# Altium schematic symbol library ArdUno_KAEsm5-61-2.SchLib: 68 symbols
Pins are listed as number, name and electrical type; pins without a type are passive.

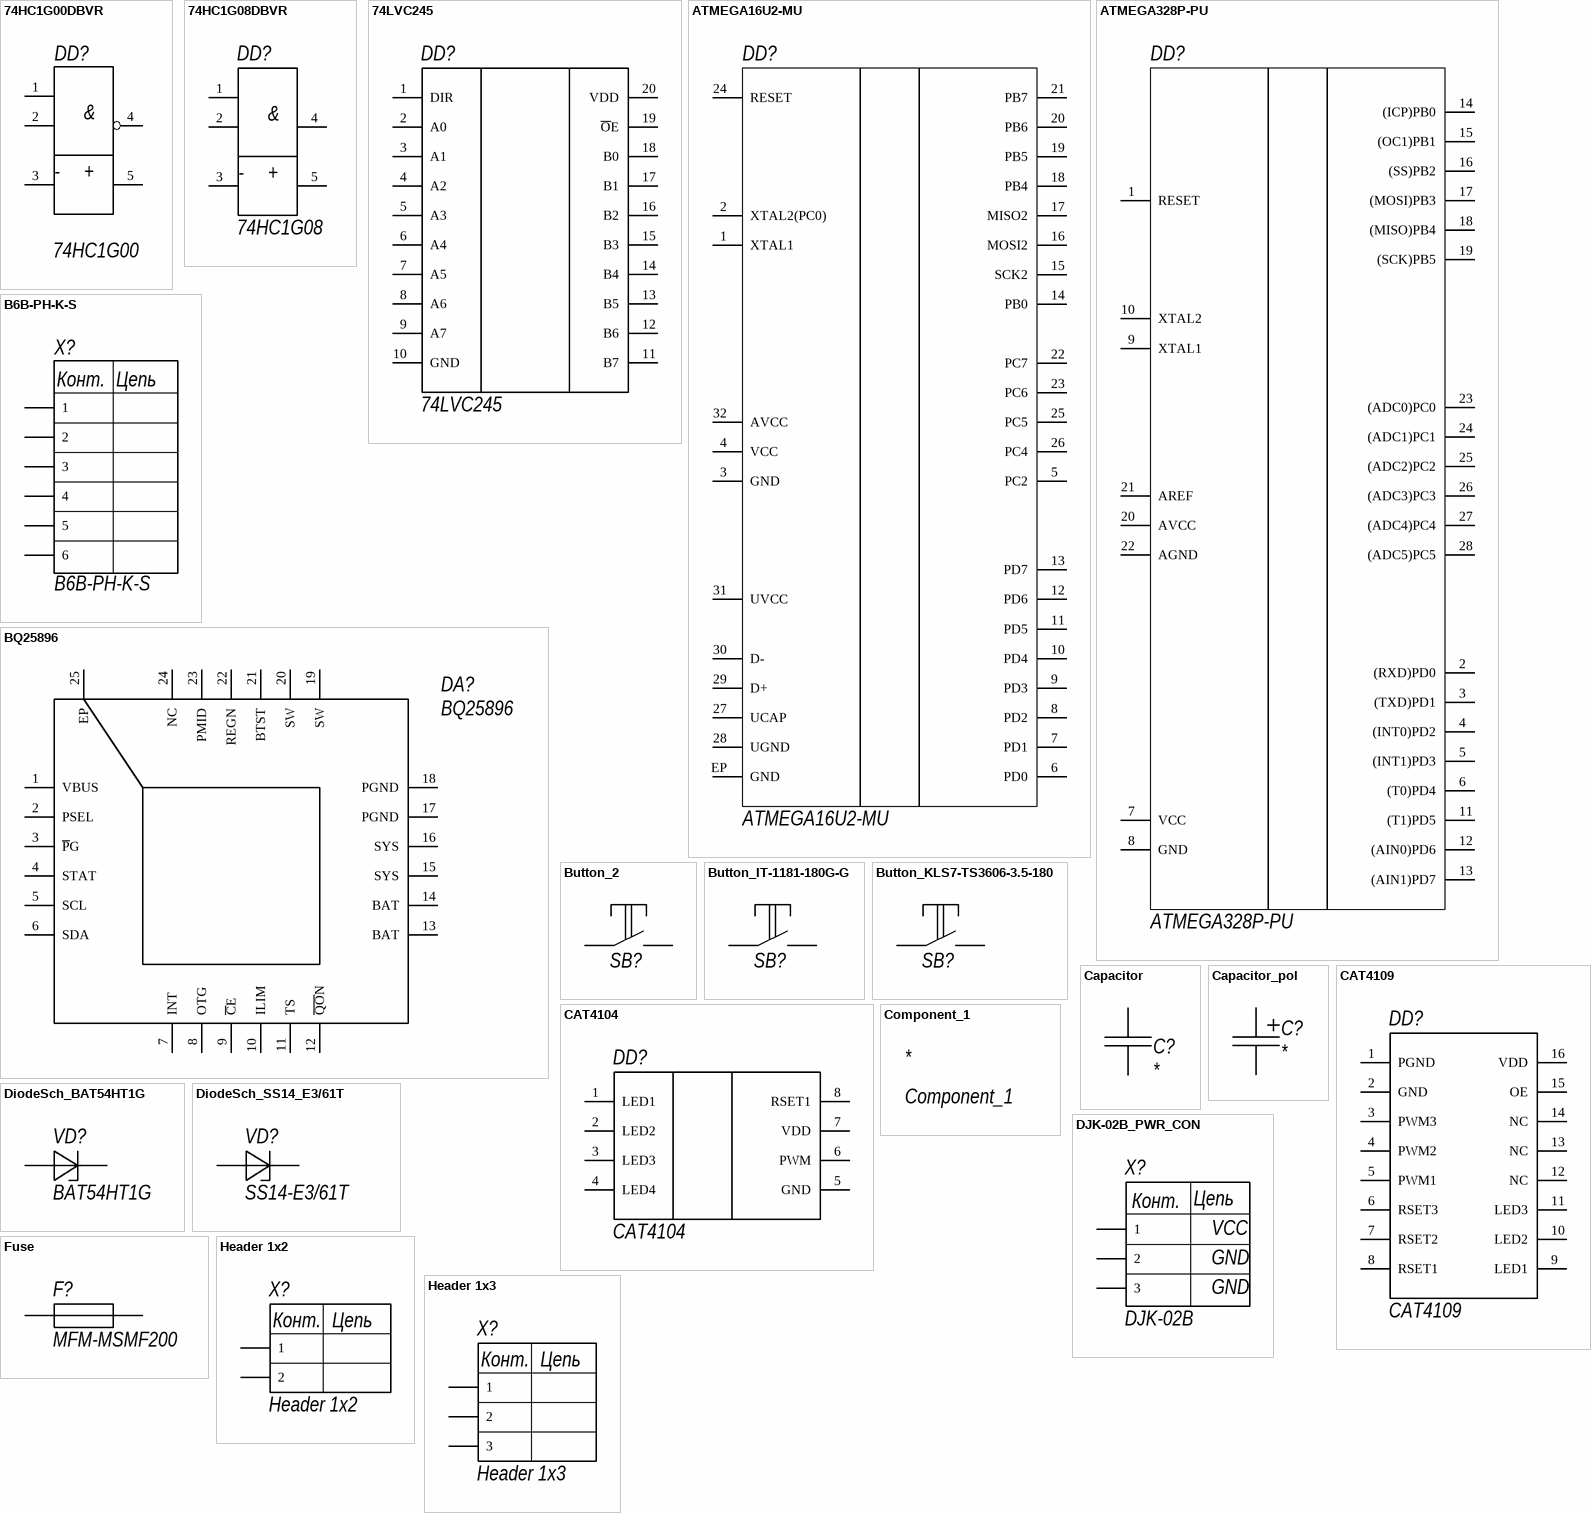
[diagram p0: symbols 74HC1G00DBVR to Header 1x3]

## 74HC1G00DBVR
designator DD?, comment 74HC1G00
footprint SOT23-5
pins: 1, 2, 3, 4, 5
text: &; -; +

## 74HC1G08DBVR
designator DD?, comment 74HC1G08
footprint SOT23-5
pins: 1, 2, 3, 4, 5
text: &; -; +

## 74LVC245
designator DD?
pins: 1 DIR, 2 A0, 3 A1, 4 A2, 5 A3, 6 A4, 7 A5, 8 A6, 9 A7, 10 GND, 11 B7, 12 B6, 13 B5, 14 B4, 15 B3, 16 B2, 17 B1, 18 B0, 19 ~{O}E, 20 VDD

## ATMEGA16U2-MU
designator DD?
ValueManufacturer: ATMEGA; ValueType: Микроконтроллер; ValueManufacturerPartNumber: ATMEGA16U2-MU; ValueDescription: Микроконтроллер; Case: QFN32_0.5_0.5_5x5мм
footprint QFN32_0.5_5x5mm
pins: 1 XTAL1, 2 XTAL2(PC0), 3 GND, 4 VCC, 5 PC2, 6 PD0, 7 PD1, 8 PD2, 9 PD3, 10 PD4, 11 PD5, 12 PD6, 13 PD7, 14 PB0, 15 SCK2, 16 MOSI2, 17 MISO2, 18 PB4, 19 PB5, 20 PB6, 21 PB7, 22 PC7, 23 PC6, 24 RESET, 25 PC5, 26 PC4, 27 UCAP, 28 UGND, 29 D+, 30 D-, 31 UVCC, 32 AVCC, EP GND

## ATMEGA328P-PU
designator DD?
ValueManufacturer: ATMEGA; ValueType: Микроконтроллер; ValueManufacturerPartNumber: ATMEGA328P-PU; ValueDescription: Микроконтроллер; Case: DIP-28
footprint DIP28_2.54
pins: 1 RESET, 2 (RXD)PD0, 3 (TXD)PD1, 4 (INT0)PD2, 5 (INT1)PD3, 6 (T0)PD4, 7 VCC, 8 GND, 9 XTAL1, 10 XTAL2, 11 (T1)PD5, 12 (AIN0)PD6, 13 (AIN1)PD7, 14 (ICP)PB0, 15 (OC1)PB1, 16 (SS)PB2, 17 (MOSI)PB3, 18 (MISO)PB4, 19 (SCK)PB5, 20 AVCC, 21 AREF, 22 AGND, 23 (ADC0)PC0, 24 (ADC1)PC1, 25 (ADC2)PC2, 26 (ADC3)PC3, 27 (ADC4)PC4, 28 (ADC5)PC5

## B6B-PH-K-S
designator X?
footprint B6B-PH-K-S
pins: 1, 2, 3, 4, 5, 6
text: Конт.; Цепь

## BQ25896
designator DA?
footprint PQFN127P600-8N
pins: 1 VBUS, 2 PSEL, 3 ~{P}G, 4 STAT, 5 SCL, 6 SDA, 7 INT, 8 OTG, 9 ~{C}E, 10 ILIM, 11 TS, 12 ~{QO}N, 13 BAT, 14 BAT, 15 SYS, 16 SYS, 17 PGND, 18 PGND, 19 SW, 20 SW, 21 BTST, 22 REGN, 23 PMID, 24 NC, 25 EP

## Button_2
designator SB?, comment 2-1437565-7  (value not drawn)
ValueManufacturer: Te Connectivity; ValueType: Кнопка тактовая; ValueManufacturerPartNumber: 2-1437565-7
footprint TAFG1-13WQR
footprint IT-1181-180G-G
footprint KLS7-TS3606-3.5-180
pins: 1, 2

## Button_IT-1181-180G-G
designator SB?, comment IT-1181-180G-G  (value not drawn)
ValueManufacturer: Te Connectivity; ValueType: Кнопка тактовая; ValueManufacturerPartNumber: IT-1181-180G-G
footprint IT-1181-180G-G
pins: 1, 2

## Button_KLS7-TS3606-3.5-180
designator SB?, comment KLS7-TS3606-3.5-180  (value not drawn)
ValueManufacturer: Te Connectivity; ValueType: Кнопка тактовая; ValueManufacturerPartNumber: KLS7-TS3606-3.5-180
footprint KLS7-TS3606-3.5-180
pins: 1, 2

## Capacitor
designator C?
ValueType: Конденсатор; Value: *; Tolerance: *; Dielectric: *; Voltage: *; ESR: *; URL: *; Temp: *; Power: *; Case: *; ValueManufacturer: *; ValueManufacturerPartNumber: *; ValueDescription: *
footprint 0603_CAP
pins: 1, 2

## Capacitor_pol
designator C?
ValueType: Конденсатор; Value: *; Tolerance: *; Dielectric: *; Voltage: *; ESR: *; URL: *; Temp: *; Power: *; Case: *; ValueManufacturer: *; ValueManufacturerPartNumber: *; ValueDescription: *
footprint Capacitor_pol
pins: 1, 2

## CAT4104
designator DD?
pins: 1 LED1, 2 LED2, 3 LED3, 4 LED4, 5 GND (power), 6 PWM, 7 VDD (power), 8 RSET1

## CAT4109
designator DD?
footprint SOIC127P600X175-16N (SOIC, 16-Leads, Body 9,90x3,90mm, Pitch 1,27mm, IPC Medium Density)
pins: 1 PGND (power), 2 GND (power), 3 PWM3, 4 PWM2, 5 PWM1, 6 RSET3, 7 RSET2, 8 RSET1, 9 LED1, 10 LED2, 11 LED3, 12 NC, 13 NC, 14 NC, 15 OE, 16 VDD (power)

## Component_1
designator *

## DiodeSch_BAT54HT1G
designator VD?, comment BAT54HT1G
ValueManufacturer: On Semiconductor; Temp: -55..+150; ValueType: Диод Шоттки; Value: *; URL: *; Case: SOD-323; ValueManufacturerPartNumber: BAT54HT1G; ValueDescription: Диод Шоттки
footprint SOD_323
pins: A 1, K 2

## DiodeSch_SS14_E3/61T
designator VD?, comment SS14-E3/61T
ValueManufacturer: Vishay; ValueType: Диод Шоттки; Value: *; URL: *; Temp: *; Case: *; ValueManufacturerPartNumber: SS14-E3/61T; ValueDescription: Диод Шоттки
footprint DO-214AC
pins: A 1, K 2

## DJK-02B_PWR_CON
designator X?, comment DJK-02B
ValueManufacturer: KLS; ValueType: Разъем питания; Case: *; Temp: *; URL: *; Value: *; ValueDescription: DJK-02B; ValueManufacturerPartNumber: DJK-02B
footprint DJK-02B
pins: 1, 2, 3
text: Конт.; Цепь; VCC; GND

## Fuse
designator F?, comment MFM-MSMF200
ValueType: Предохранитель; Value: *; URL: *; Temp: *; Case: *; ValueManufacturer: *; ValueManufacturerPartNumber: MFM-MSMF200; ValueDescription: *
footprint MF-MSMF200
pins: 1, 2

## Header 1x2
designator X?
ValueDescription: PLD-6; ValueType: Разъем штыревой 2,54 мм; Case: HDR2X3; Temp: *; URL: *; Value: *; ValueManufacturer: *; ValueManufacturerPartNumber: *
pins: 1, 2
text: Конт.; Цепь

## Header 1x3
designator X?
ValueDescription: PLD-3; ValueType: Разъем штыревой 2,54 мм; Case: HDR1X3; Temp: *; URL: *; Value: *; ValueManufacturer: *; ValueManufacturerPartNumber: *
footprint HDR2X3
pins: 1, 2, 3
text: Конт.; Цепь

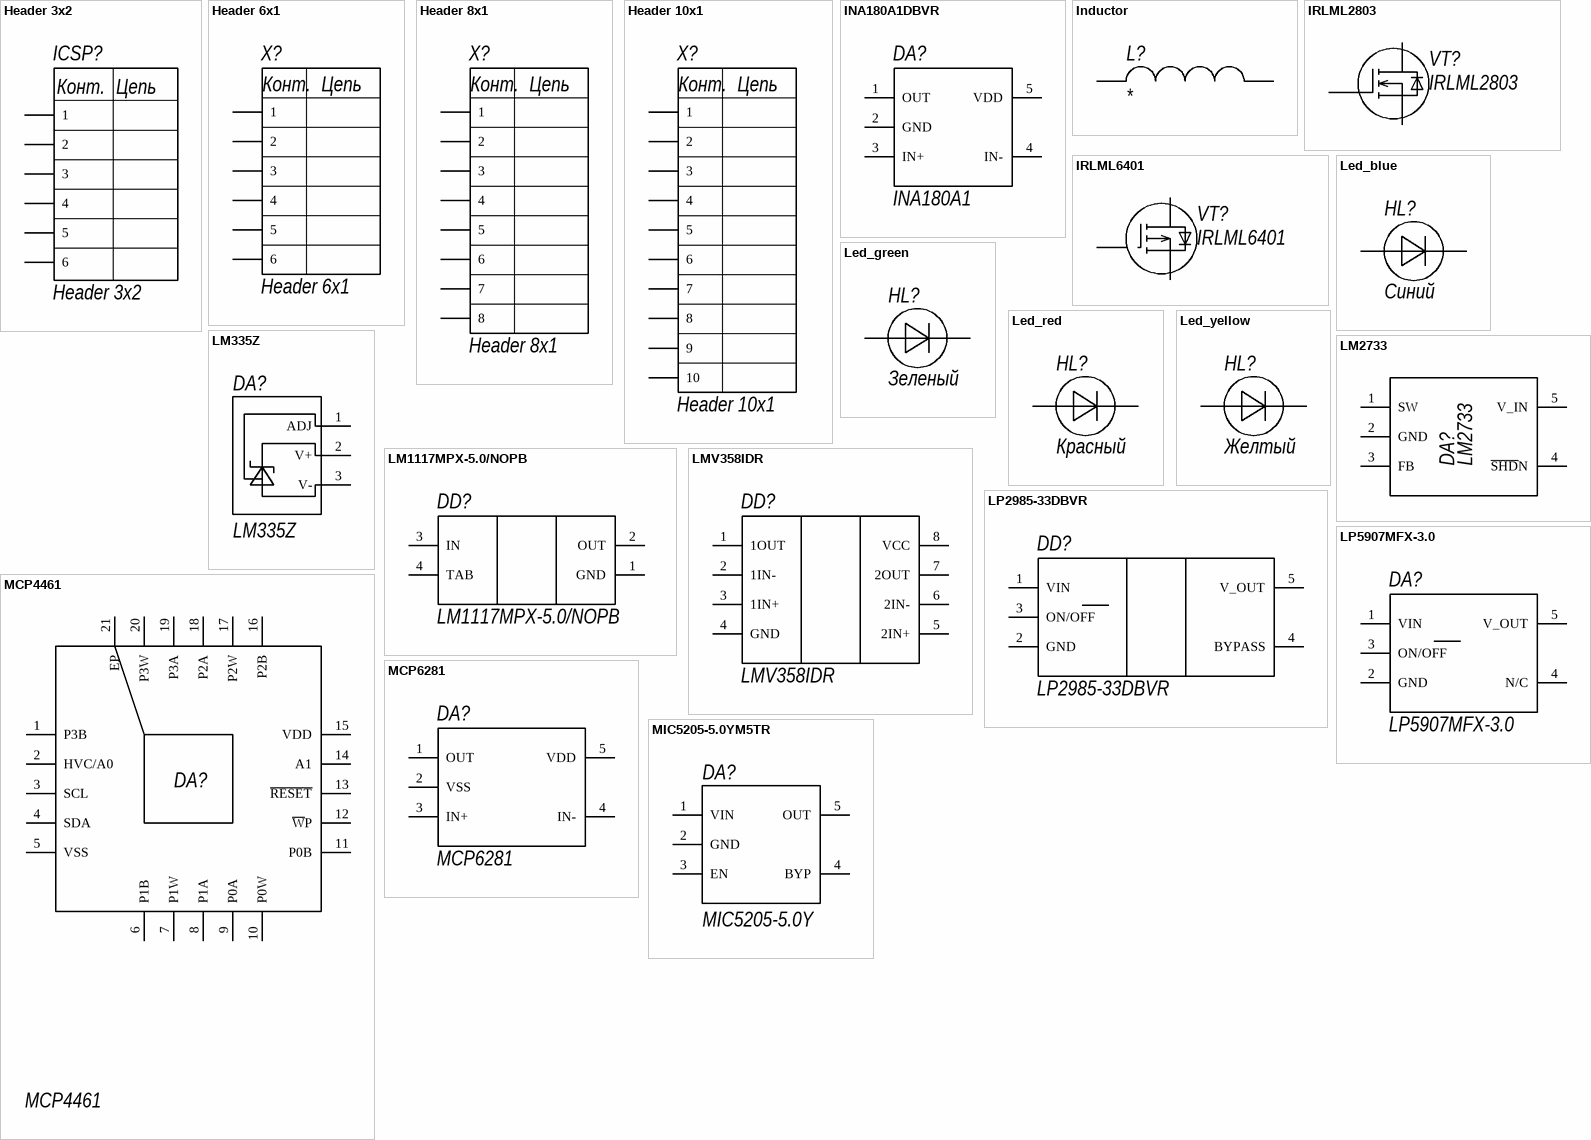
[diagram p1: symbols Header 3x2 to MIC5205-5.0YM5TR]

## Header 3x2
designator ICSP?
ValueDescription: PLD-6; ValueType: Разъем штыревой 2,54 мм; Case: HDR2X3; Temp: *; URL: *; Value: *; ValueManufacturer: *; ValueManufacturerPartNumber: *
footprint HDR2X3
pins: 1, 2, 3, 4, 5, 6
text: Конт.; Цепь

## Header 6x1
designator X?
ValueType: Разъем; Case: PBS-6; Temp: *; URL: *; ValueManufacturer: *; ValueManufacturerPartNumber: *
footprint PBS-06
pins: 1, 2, 3, 4, 5, 6
text: Конт.; Цепь

## Header 8x1
designator X?
ValueType: Разъем; Case: PBS-8; Temp: *; URL: *; ValueManufacturer: *; ValueManufacturerPartNumber: *
footprint PBS-08
pins: 1, 2, 3, 4, 5, 6, 7, 8
text: Конт.; Цепь

## Header 10x1
designator X?
ValueType: Разъем; Case: PBS-10; Temp: *; URL: *; ValueManufacturer: *; ValueManufacturerPartNumber: *
footprint PBS-10
pins: 1, 2, 3, 4, 5, 6, 7, 8, 9, 10
text: Конт.; Цепь

## INA180A1DBVR
designator DA?, comment INA180A1
footprint SOT23-5
pins: 1 OUT, 2 GND, 3 IN+, 4 IN-, 5 VDD

## Inductor
designator L?
ValueManufacturerPartNumber: BLM18AG601SN1D; ValueType: Индуктивность; Value: *; Tolerance: *; ESR: *; URL: *; Temp: *; Case: *; ValueManufacturer: *; ValueDescription: *
footprint 0603_IND
footprint INDP7166X30N (Precision Wire Wound Inductor, 2-Leads, Body 7,10x6,60mm, IPC Medium Density)
footprint IND_1515(4*4) (Precision Wire Wound Inductor, 2-Leads, Body 4,00x4,00mm, IPC Medium Density)
footprint sh3018
pins: 1, 2

## IRLML2803
designator VT?
footprint SOT-23
pins: 1 G, 2 S, 3 D

## IRLML6401
designator VT?
footprint SOT-23
pins: 1 G, 2 S, 3 D

## Led_blue
designator HL?, comment Синий
ValueManufacturer: Foryard; ValueManufacturerPartNumber: fyls-0603urc; Temp: -40...+85°C; ValueType: Светодиод; URL: *; Case: 0603; Value: Синий; ValueDescription: Светодиод
footprint 0603_LED_BLUE
pins: A, K

## Led_green
designator HL?, comment Зеленый
ValueManufacturer: Foryard; ValueManufacturerPartNumber: fyls-0603urc; Temp: -40...+85°C; ValueType: Светодиод; URL: *; Case: 0603; Value: Зеленый; ValueDescription: Светодиод
footprint 0603_LED_GREEN
pins: A, K

## Led_red
designator HL?, comment Красный
ValueManufacturer: Foryard; ValueManufacturerPartNumber: fyls-0603urc; Temp: -40...+85°C; ValueType: Светодиод; URL: *; Case: 0603; Value: Красный; ValueDescription: Светодиод
footprint 0603_LED_RED
pins: A, K

## Led_yellow
designator HL?, comment Желтый
ValueManufacturer: Foryard; ValueManufacturerPartNumber: fyls-0603urc; Temp: -40...+85°C; ValueType: Светодиод; URL: *; Case: 0603; Value: Желтый; ValueDescription: Светодиод
footprint 0603_LED_YELLOW
pins: A, K

## LM335Z
designator DA?
pins: 1 ADJ, 2 V+, 3 V-

## LM1117MPX-5.0/NOPB
designator DD?
ValueManufacturer: Texas Instruments; ValueType: Линейный стабилизатор напряжения; Case: SOT-223; ValueManufacturerPartNumber: LM1117MPX-5.0
footprint SOT223-4
pins: 1 GND, 2 OUT, 3 IN, 4 TAB

## LM2733
designator DA?
footprint SOT23-5
pins: 1 SW, 2 GND, 3 FB, 4 ~{SHD}N, 5 V_IN

## LMV358IDR
designator DD?
ValueManufacturer: Texas Instruments; ValueType: Операционный усилитель; Case: SOIC-8; ValueManufacturerPartNumber: LMV358IDR
footprint SOIC-8
pins: 1 1OUT, 2 1IN-, 3 1IN+, 4 GND, 5 2IN+, 6 2IN-, 7 2OUT, 8 VCC
1 alternate drawing of the same symbol

## LP2985-33DBVR
designator DD?
ValueManufacturer: Texas Instruments; ValueType: Линейный стабилизатор напряжения; Case: SOT-23-5; ValueManufacturerPartNumber: LP2985-33DBVR
footprint SOT23-5
pins: 1 VIN, 2 GND, 3 ON/OFF, 4 BYPASS, 5 V_OUT

## LP5907MFX-3.0
designator DA?
footprint SOT23-5
pins: 1 VIN, 2 GND, 3 ON/OFF, 4 N/C, 5 V_OUT

## MCP4461
designator DA?
footprint PQFN50P400X400X100_HS-21N (PQFN, 20-Leads, Body 4,00x4,00mm, Pitch 0,50mm, Thermal Pad 2,70x2,70mm, IPC Medium Density)
pins: 1 P3B, 2 HVC/A0, 3 SCL, 4 SDA, 5 VSS (power), 6 P1B, 7 P1W, 8 P1A, 9 P0A, 10 P0W, 11 P0B, 12 ~{W}P, 13 ~{RESET}, 14 A1, 15 VDD (power), 16 P2B, 17 P2W, 18 P2A, 19 P3A, 20 P3W, 21 EP

## MCP6281
designator DA?
footprint SOT23-5
pins: 1 OUT, 2 VSS, 3 IN+, 4 IN-, 5 VDD

## MIC5205-5.0YM5TR
designator DA?, comment MIC5205-5.0Y
footprint SOT23-5
pins: 1 VIN, 2 GND, 3 EN, 4 BYP, 5 OUT

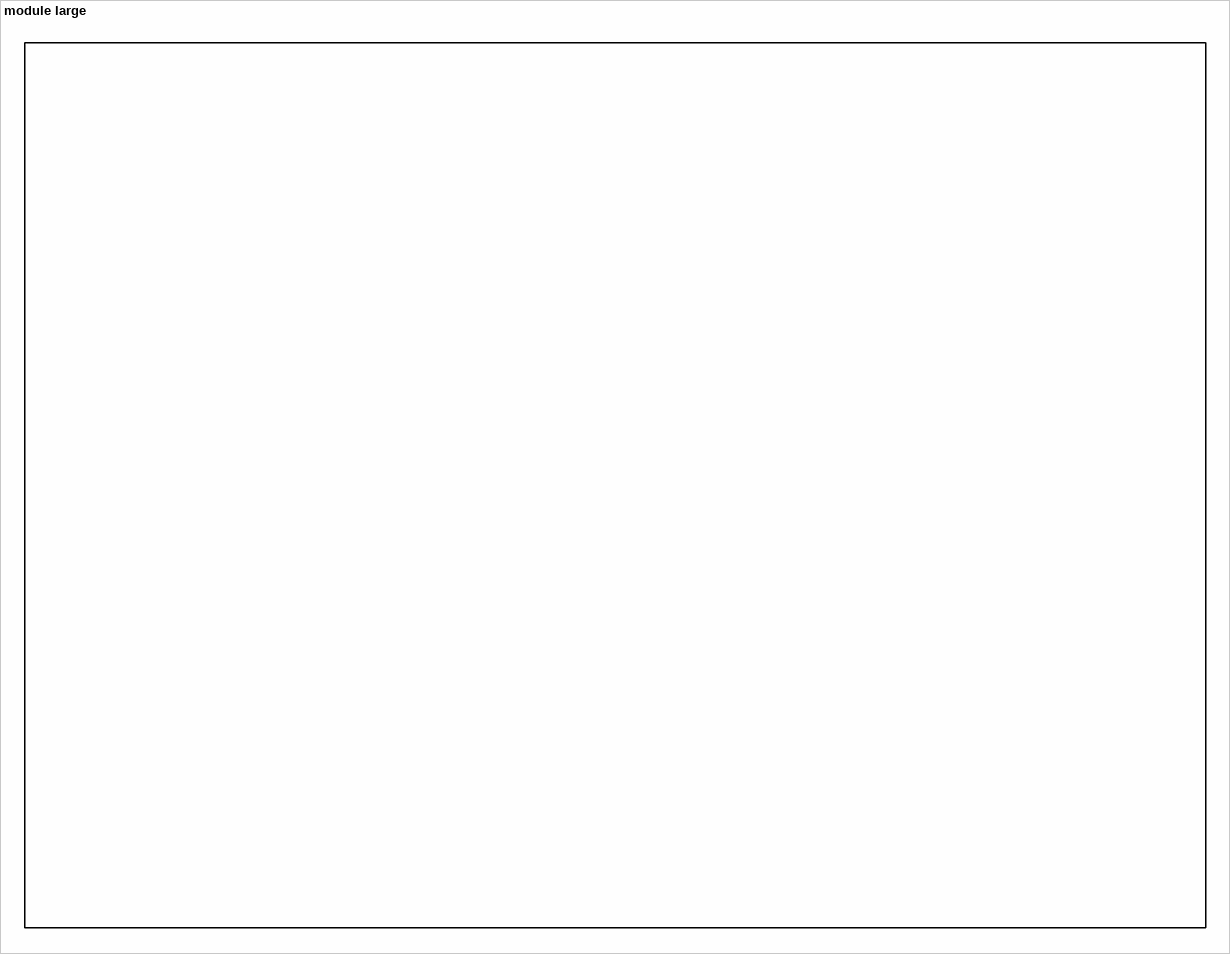
[diagram p2: symbol module large]

## module large
designator *  (value not drawn)

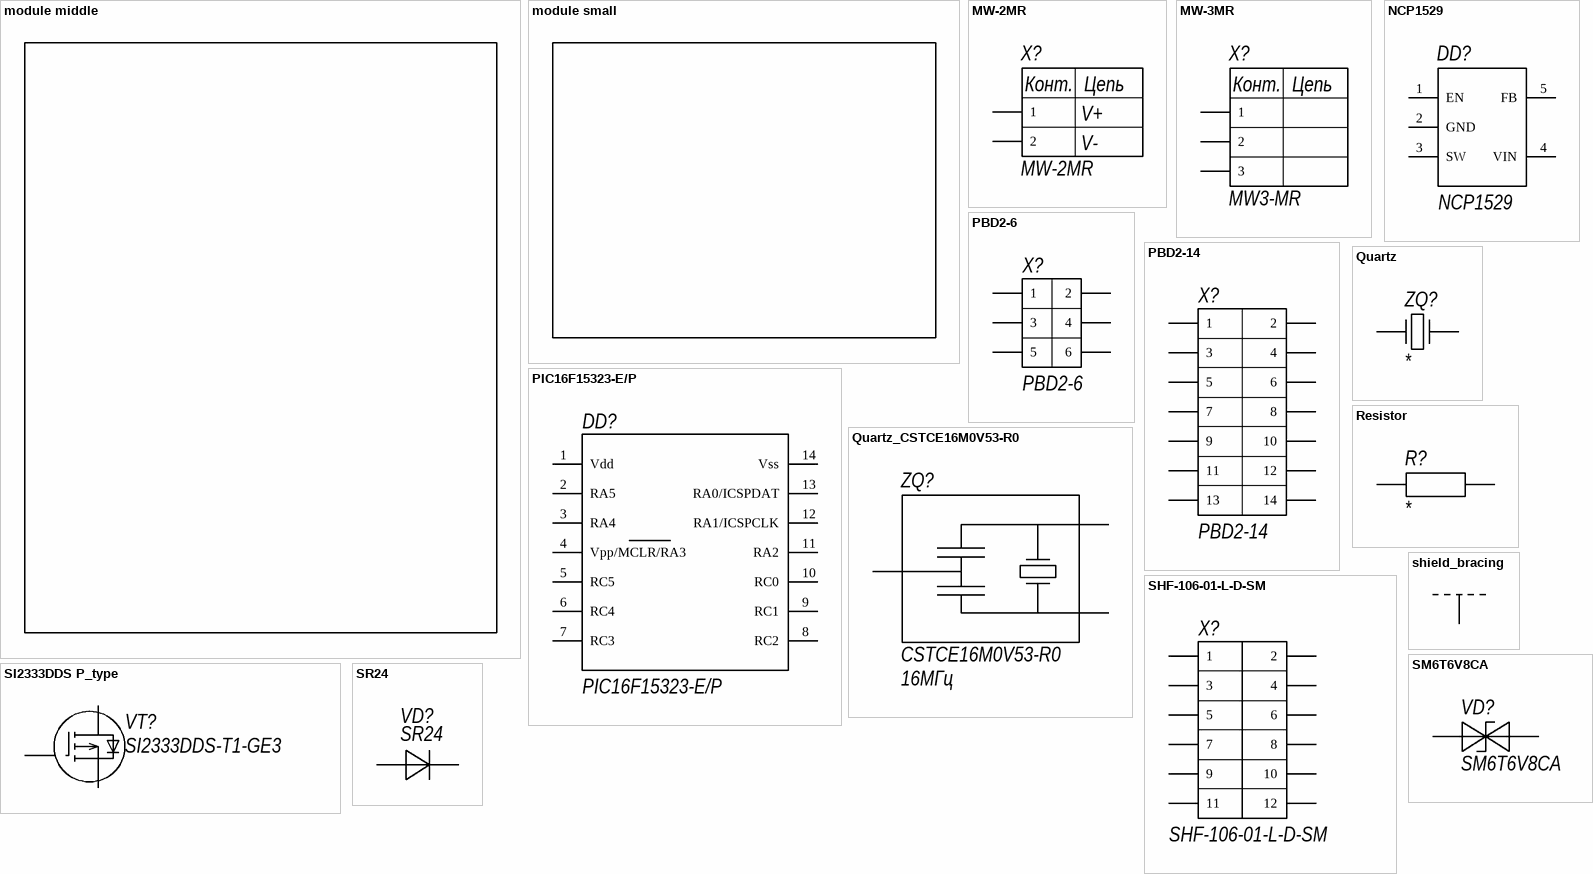
[diagram p3: symbols module middle to SR24]

## module middle
designator *  (value not drawn)

## module small
designator *  (value not drawn)

## MW-2MR
designator X?
footprint MW-2MR
pins: 1, 2
text: Конт.; Цепь; V+; V-

## MW-3MR
designator X?, comment MW3-MR
footprint MW-3MR
pins: 1, 2, 3
text: Конт.; Цепь

## NCP1529
designator DD?
footprint SOT23-5
pins: 1 EN, 2 GND (power), 3 SW, 4 VIN, 5 FB

## PBD2-6
designator X?
footprint PBD2-6
pins: 1, 2, 3, 4, 5, 6

## PBD2-14
designator X?
footprint PBD2-14
pins: 1, 2, 3, 4, 5, 6, 7, 8, 9, 10, 11, 12, 13, 14

## PIC16F15323-E/P
designator DD?
pins: 1 Vdd, 2 RA5, 3 RA4, 4 Vpp/MCLR/RA3, 5 RC5, 6 RC4, 7 RC3, 8 RC2, 9 RC1, 10 RC0, 11 RA2, 12 RA1/ICSPCLK, 13 RA0/ICSPDAT, 14 Vss

## Quartz
designator ZQ?
ValueType: Кварцевый резонатор; Tolerance: *; URL: *; Temp: *; Case: *; ValueManufacturer: *; ValueManufacturerPartNumber: *; Value: *
footprint HC-49S
footprint MJ-25.000 (0532)
pins: 1, 2

## Quartz_CSTCE16M0V53-R0
designator ZQ?, comment CSTCE16M0V53-R0  value 16МГц
ValueManufacturer: Murata; TEMP: -40...+85°C; Tolerance: 0.5%; ValueType: Керамический резонатор; Case: HC-49S; URL: *; ValueDescription: *; ValueManufacturerPartNumber: CSTCE16M0V53-R0
footprint CSTCE16M0V53-R0
pins: 1, 2, 3

## Resistor
designator R?
ValueType: Резистор; Value: *; Tolerance: *; URL: *; Temp: *; Power: *; Case: *; ValueManufacturer: *; ValueManufacturerPartNumber: *; ValueDescription: *
footprint 0603_RES
pins: 1, 2

## SHF-106-01-L-D-SM
designator X?
footprint SHF-106-01-L-D-SM
pins: 1, 2, 3, 4, 5, 6, 7, 8, 9, 10, 11, 12

## shield_bracing
designator sh?, comment shield  (value not drawn)
footprint shield_bracing
pins: 1

## SI2333DDS P_type
designator VT?, comment SI2333DDS-T1-GE3
ValueManufacturer: Vishay; ValueType: MOSFET; Case: SOT-23; ValueManufacturerPartNumber: SI2333DDS-T1-GE3
footprint SOT-23
pins: 1 G, 2 S, 3 D

## SM6T6V8CA
designator VD?
footprint DIOM4336X24N (Molded Diode, 2-Leads, Body 4,32x3,63mm, IPC Medium Density)
pins: A 1, K 2

## SR24
designator VD?
footprint DO-214AC
pins: A 1, K 2

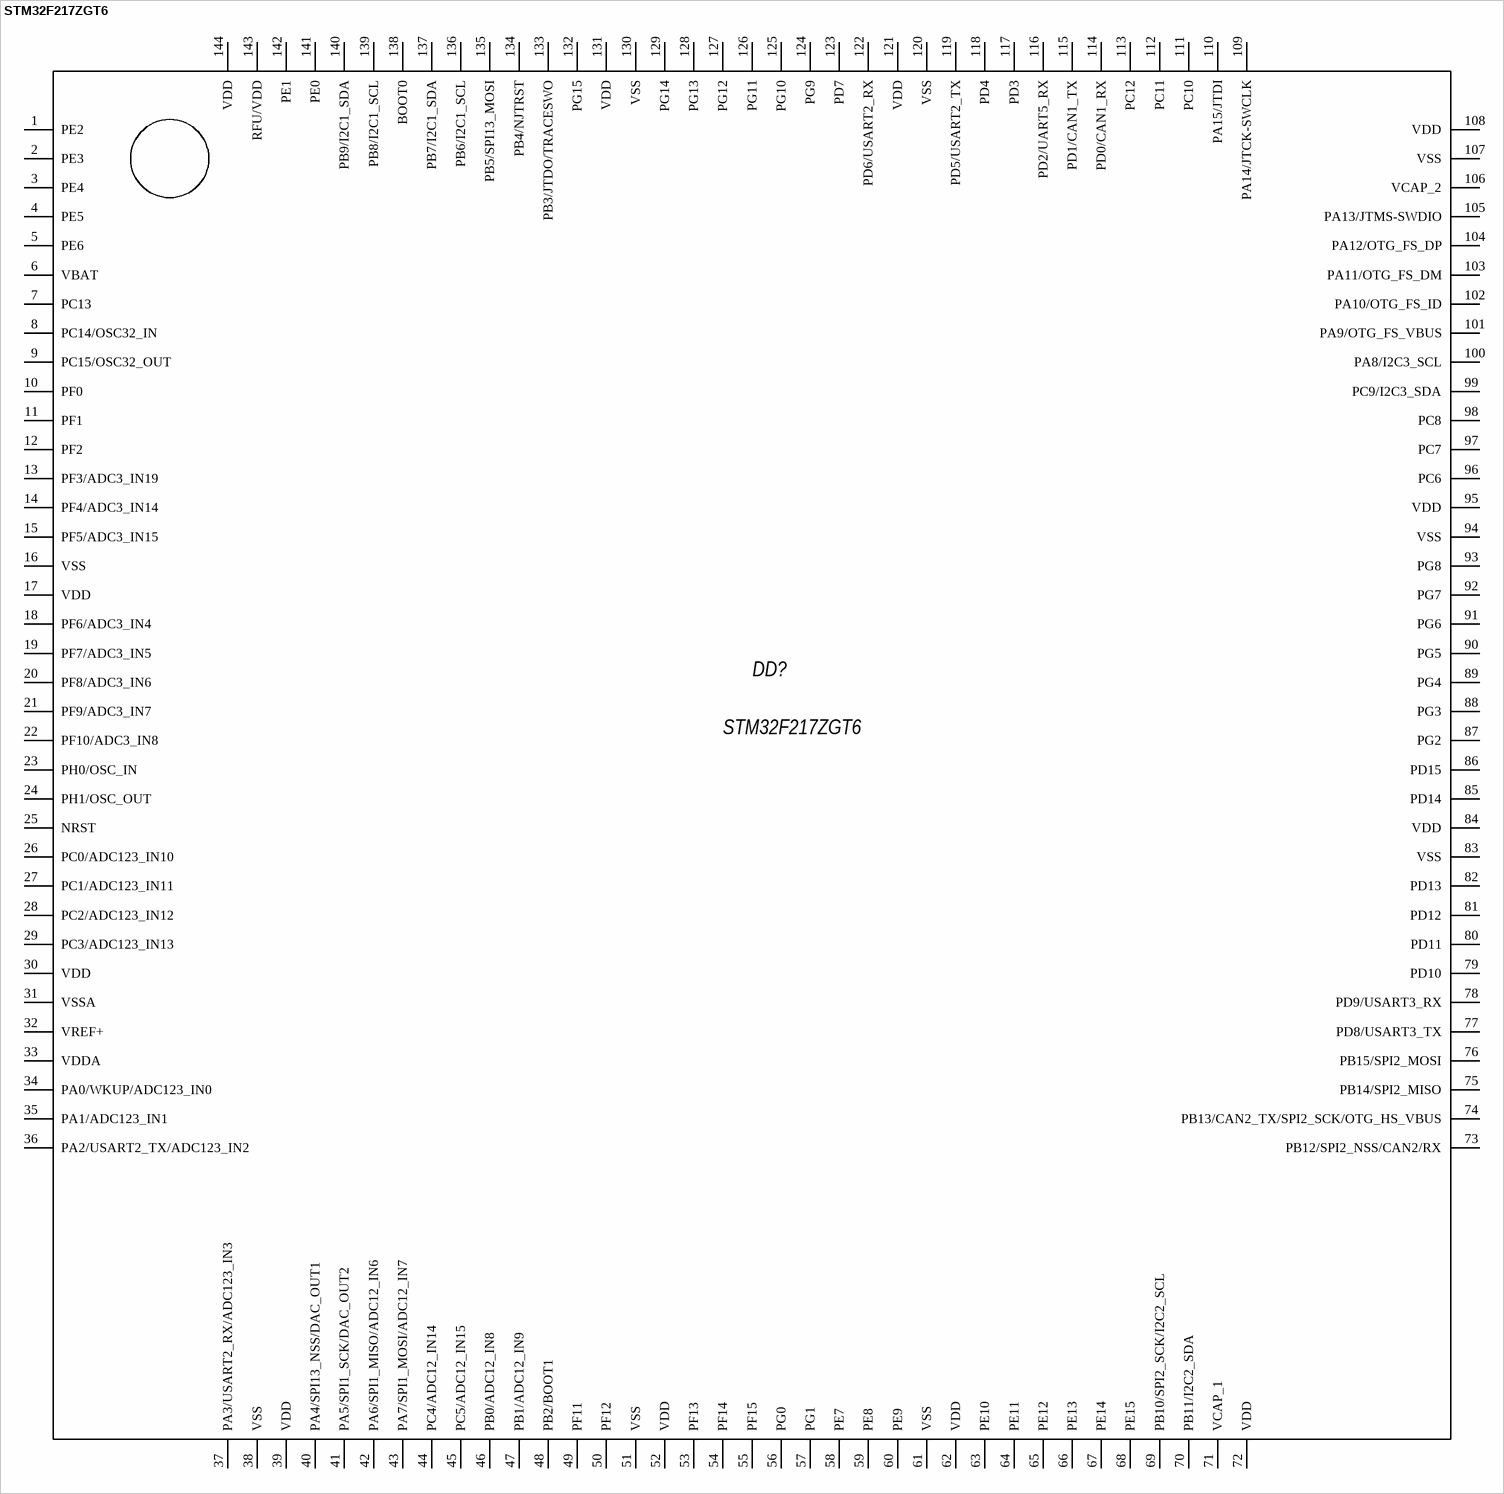
[diagram p4: symbol STM32F217ZGT6]

## STM32F217ZGT6
designator DD?
footprint TQFP-144-20X20 (TSQFP, 144-Leads, Body 20,00x20,00mm, Pitch 0,50mm, IPC Medium Density)
pins: 1 PE2, 2 PE3, 3 PE4, 4 PE5, 5 PE6, 6 VBAT, 7 PC13, 8 PC14/OSC32_IN, 9 PC15/OSC32_OUT, 10 PF0, 11 PF1, 12 PF2, 13 PF3/ADC3_IN19, 14 PF4/ADC3_IN14, 15 PF5/ADC3_IN15, 16 VSS, 17 VDD, 18 PF6/ADC3_IN4, 19 PF7/ADC3_IN5, 20 PF8/ADC3_IN6, 21 PF9/ADC3_IN7, 22 PF10/ADC3_IN8, 23 PH0/OSC_IN, 24 PH1/OSC_OUT, 25 NRST, 26 PC0/ADC123_IN10, 27 PC1/ADC123_IN11, 28 PC2/ADC123_IN12, 29 PC3/ADC123_IN13, 30 VDD, 31 VSSA, 32 VREF+, 33 VDDA, 34 PA0/WKUP/ADC123_IN0, 35 PA1/ADC123_IN1, 36 PA2/USART2_TX/ADC123_IN2, 37 PA3/USART2_RX/ADC123_IN3, 38 VSS, 39 VDD, 40 PA4/SPI13_NSS/DAC_OUT1, 41 PA5/SPI1_SCK/DAC_OUT2, 42 PA6/SPI1_MISO/ADC12_IN6, 43 PA7/SPI1_MOSI/ADC12_IN7, 44 PC4/ADC12_IN14, 45 PC5/ADC12_IN15, 46 PB0/ADC12_IN8, 47 PB1/ADC12_IN9, 48 PB2/BOOT1, 49 PF11, 50 PF12, 51 VSS, 52 VDD, 53 PF13, 54 PF14, 55 PF15, 56 PG0, 57 PG1, 58 PE7, 59 PE8, 60 PE9, 61 VSS, 62 VDD, 63 PE10, 64 PE11, 65 PE12, 66 PE13, 67 PE14, 68 PE15, 69 PB10/SPI2_SCK/I2C2_SCL, 70 PB11/I2C2_SDA, 71 VCAP_1, 72 VDD, 73 PB12/SPI2_NSS/CAN2/RX, 74 PB13/CAN2_TX/SPI2_SCK/OTG_HS_VBUS, 75 PB14/SPI2_MISO, 76 PB15/SPI2_MOSI, 77 PD8/USART3_TX, 78 PD9/USART3_RX, 79 PD10, 80 PD11, 81 PD12, 82 PD13, 83 VSS, 84 VDD, 85 PD14, 86 PD15, 87 PG2, 88 PG3, 89 PG4, 90 PG5, 91 PG6, 92 PG7, 93 PG8, 94 VSS, 95 VDD, 96 PC6, 97 PC7, 98 PC8, 99 PC9/I2C3_SDA, 100 PA8/I2C3_SCL, 101 PA9/OTG_FS_VBUS, 102 PA10/OTG_FS_ID, 103 PA11/OTG_FS_DM, 104 PA12/OTG_FS_DP, 105 PA13/JTMS-SWDIO, 106 VCAP_2, 107 VSS, 108 VDD, 109 PA14/JTCK-SWCLK, 110 PA15/JTDI, 111 PC10, 112 PC11, 113 PC12, 114 PD0/CAN1_RX, 115 PD1/CAN1_TX, 116 PD2/UART5_RX, 117 PD3, 118 PD4, 119 PD5/USART2_TX, 120 VSS, 121 VDD, 122 PD6/USART2_RX, 123 PD7, 124 PG9, 125 PG10, 126 PG11, 127 PG12, 128 PG13, 129 PG14, 130 VSS, 131 VDD, 132 PG15, 133 PB3/JTDO/TRACESWO, 134 PB4/NJTRST, 135 PB5/SPI13_MOSI, 136 PB6/I2C1_SCL, 137 PB7/I2C1_SDA, 138 BOOT0, 139 PB8/I2C1_SCL, 140 PB9/I2C1_SDA, 141 PE0, 142 PE1, 143 RFU/VDD, 144 VDD

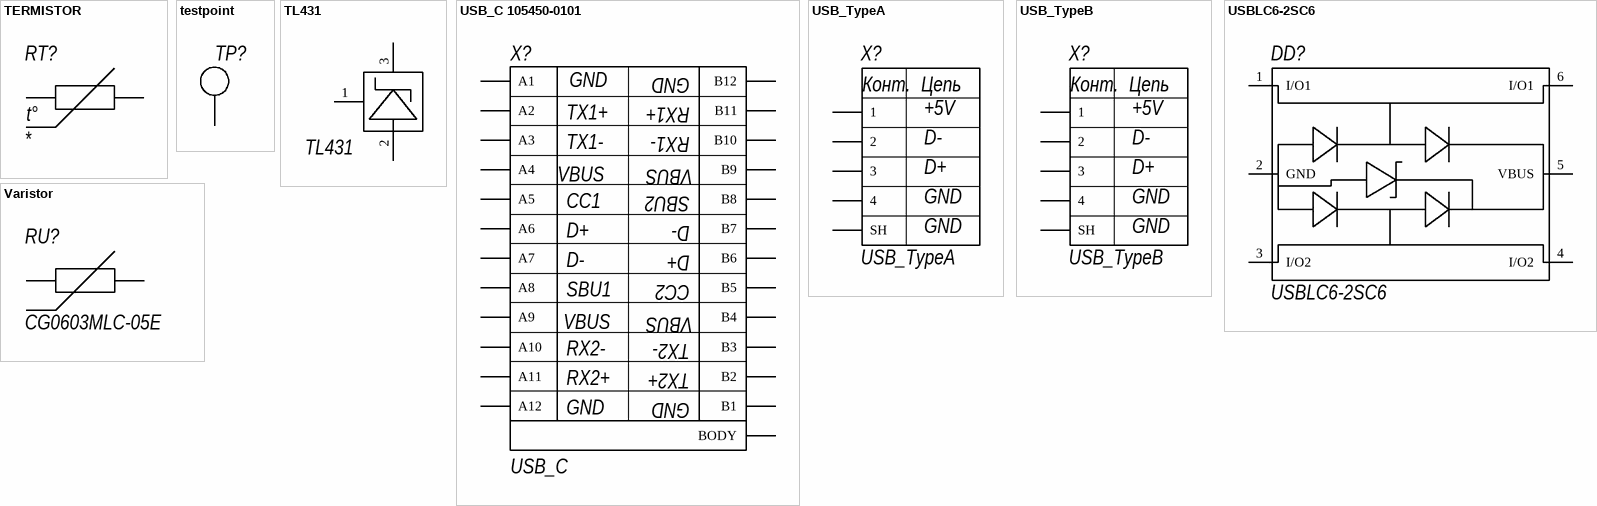
[diagram p5: symbols TERMISTOR to Varistor]

## TERMISTOR
designator RT?
Case: *; Value: *
footprint RESC2012X04N (Chip Resistor, 2-Leads, Body 2,00x1,25mm, IPC Medium Density)
pins: 1, 2
text: t°

## testpoint
designator TP?, comment TP  (value not drawn)
footprint testpoint_multi
footprint testpoint_one_layer
pins: 1

## TL431
designator DA?
pins: 1, 2, 3

## USB_C 105450-0101
designator X?, comment USB_C
footprint USB-C
footprint USB_C_smd
pins: 0 BODY, A1, A2, A3, A4, A5, A6, A7, A8, A9, A10, A11, A12, B1, B2, B3, B4, B5, B6, B7, B8, B9, B10, B11, B12
text: GND; RX1+; TX1+; RX1-; TX1-; VBUS; SBU2; CC1; D-; D+; CC2; SBU1; TX2-; RX2-; TX2+; RX2+

## USB_TypeA
designator X?
ValueManufacturer: Te Connectivity; ValueManufacturerPartNumber: 292304-1; ValueType: USB разъем тип B
pins: 0 SH, 1, 2, 3, 4
text: Конт.; Цепь; +5V; D-; D+; GND

## USB_TypeB
designator X?
ValueManufacturer: Te Connectivity; ValueManufacturerPartNumber: 292304-1; ValueType: USB разъем тип B
footprint USB_typeB
pins: 0 SH, 1, 2, 3, 4
text: Конт.; Цепь; +5V; D-; D+; GND

## USBLC6-2SC6
designator DD?
footprint SOT95P280X145-6N (SOT23, 6-Leads, Body 2,90x2,80mm, Pitch 0,95mm, IPC Medium Density)
pins: 1 I/O1, 2 GND, 3 I/O2, 4 I/O2, 5 VBUS, 6 I/O1

## Varistor
designator RU?, comment CG0603MLC-05E
ValueType: Варистор; Value: *; URL: *; Temp: *; Case: *; ValueManufacturer: *; ValueManufacturerPartNumber: CG0603MLC-05E; ValueDescription: *
footprint 0603_VAR
pins: 1, 2